# Altium schematic symbol library XKB.SchLib: 2 symbols
Pins are listed as number, name and electrical type; pins without a type are passive.

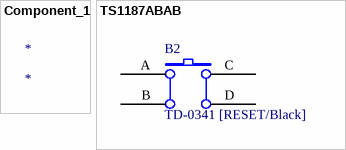
[diagram p0: symbols Component_1 to TS1187ABAB]

## Component_1
designator *

## TS1187ABAB
designator B2, comment TD-0341 [RESET/Black]
SE PUSHBUTTON
footprint PB (Footprint not found)
footprint PB10
footprint BP1CMS
pins: A, B, C, D